# EAGLE library part 25AAXX (library U-Generic-SPI-EEPROM)
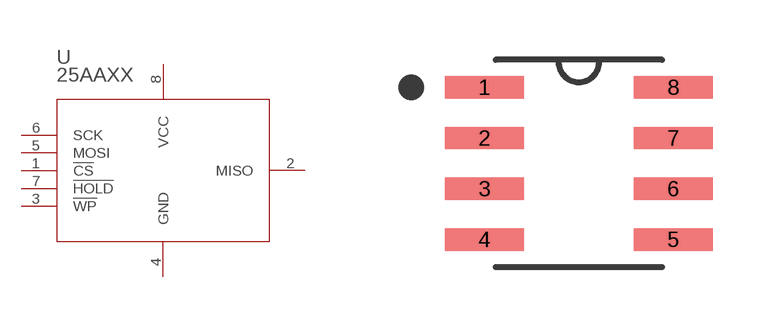
[diagram p0: symbol with the pads of SOIC8; footprint SOIC8]

Designator prefix U

## 25AAXX (MPN: 25AA02E48T-I/SN)  [SOIC8]
1  !CS  in
2  MISO  out
3  !WP  in
4  GND  pwr
5  MOSI  in
6  SCK  in
7  !HOLD  in
8  VCC  pwr

## Footprint SOIC8 (pad centres in mm)
smd 1.981 x 0.559: 1 -2.362,1.905; 2 -2.362,0.635; 3 -2.362,-0.635; 4 -2.362,-1.905; 5 2.362,-1.905; 6 2.362,-0.635; 7 2.362,0.635; 8 2.362,1.905